# EAGLE library part NE555P (library Nixie)
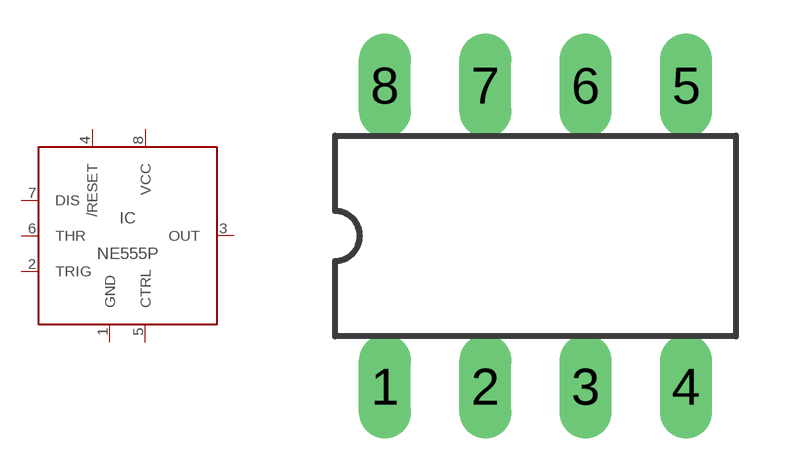
[diagram p1: symbol with the pads of DIL8; footprint DIL8]

Designator prefix IC

## NE555P  [DIL8]
1  GND
2  TRIG
3  OUT
4  /RESET
5  CTRL
6  THR
7  DIS
8  VCC

## Footprint DIL8 (pad centres in mm)
Dual In Line package type P
drill 0.813 long: 1 -3.81,-3.81; 2 -1.27,-3.81; 3 1.27,-3.81; 4 3.81,-3.81; 5 3.81,3.81; 6 1.27,3.81; 7 -1.27,3.81; 8 -3.81,3.81